# Altium footprint library Inductor_THT.PcbLib: 269 footprints (part 12 of 17)
Each footprint in its own frame and in the unit in brackets; x right, y up, seen from the top. Pads: shape width x height; smd on the part's side, far side on the other; paste and mask are expansions set on the pad; w line width, h text height; cw(c..) or ccw(c..) is an arc to the next point about the centre after c.
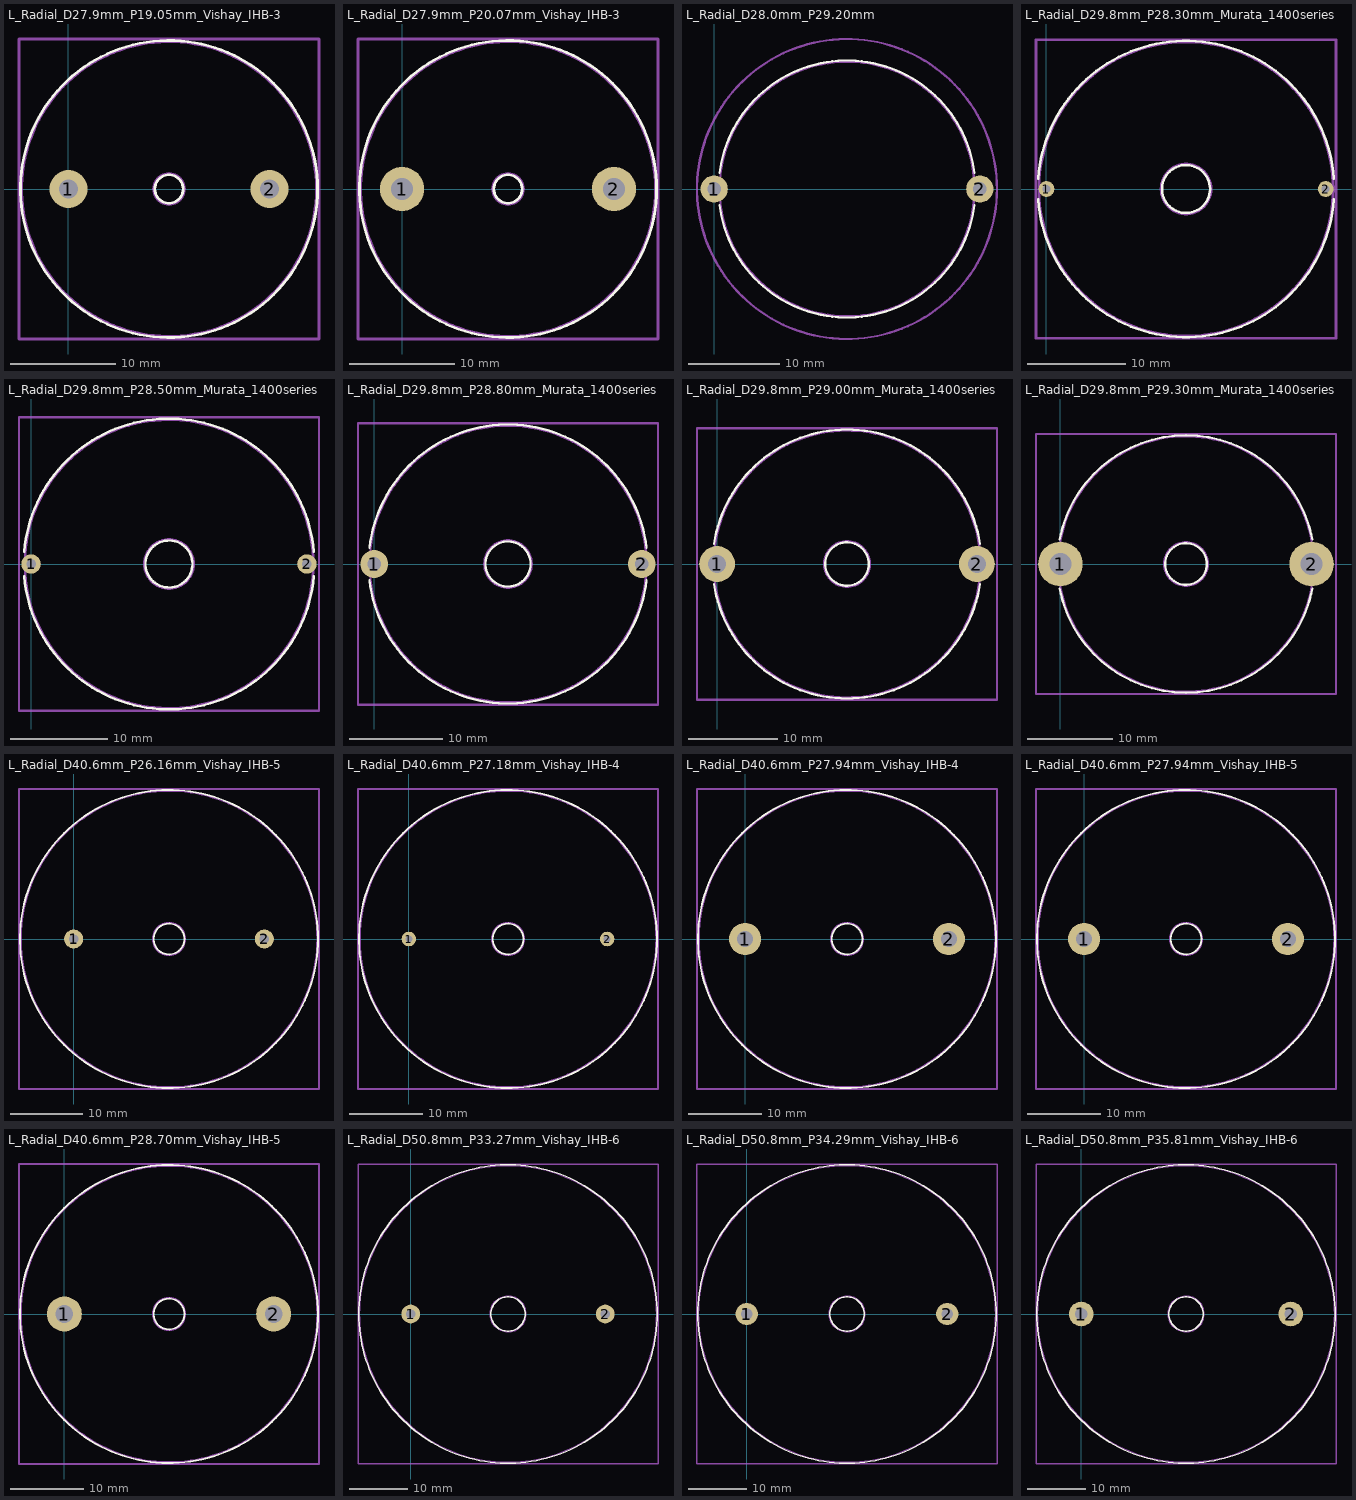
[diagram p11: the footprints below, top view; thin cyan lines are the x and y axes]

## L_Radial_D27.9mm_P19.05mm_Vishay_IHB-3 [mm]
pads (2):
  round 3.6 hole 1.8: 1(0,0) 2(19.05,0)
F.SilkS:
  circle w0.254: c9.525,0 r14.07
  circle w0.254: c9.525,0 r1.34
Top Assembly:
  circle w0.254: c9.525,0 r13.95
  circle w0.254: c9.525,0 r1.46
  text "'.Designator'" at 5.478,-0.84 h1
Top Courtyard:
  lines w0.254: -4.68,-14.2 23.73,-14.2 23.73,14.2 -4.68,14.2 -4.68,-14.2
Top Designator:
  text ".Designator" at 1.907,-0.508 h1.52
3D body "L_Radial_D27.9mm_P19.05mm_Vishay_IHB-3.step": height 21.44, standoff -3, extent -4.425,-13.946 23.475,13.946

## L_Radial_D27.9mm_P20.07mm_Vishay_IHB-3 [mm]
pads (2):
  round 4.2 hole 2.1: 1(0,0) 2(20.07,0)
F.SilkS:
  circle w0.254: c10.035,0 r14.07
  circle w0.254: c10.035,0 r1.34
Top Assembly:
  circle w0.254: c10.035,0 r13.95
  circle w0.254: c10.035,0 r1.46
  text "'.Designator'" at 5.988,-0.84 h1
Top Courtyard:
  lines w0.254: -4.17,-14.2 24.24,-14.2 24.24,14.2 -4.17,14.2 -4.17,-14.2
Top Designator:
  text ".Designator" at 2.417,-0.508 h1.52
3D body "L_Radial_D27.9mm_P20.07mm_Vishay_IHB-3.step": height 21.44, standoff -3, extent -3.915,-13.946 23.985,13.946

## L_Radial_D28.0mm_P29.20mm [mm]
pads (2):
  round 3 hole 1.5: 1(0,0) 2(29.2,0)
F.SilkS:
  lines w0.254: 0.59,-1.76 ccw(c14.6,0) 28.61,-1.76 ; 0.59,1.76 cw(c14.6,0) 28.61,1.76
Top Assembly:
  circle w0.254: c14.6,0 r14
  text "'.Designator'" at 10.553,-0.84 h1
Top Courtyard:
  circle w0.254: c14.6,0 r16.49
Top Designator:
  text ".Designator" at 6.982,-0.508 h1.52
3D body "L_Radial_D28.0mm_P29.20mm.step": height 28.1, standoff -3, extent -0.595,-14 29.8,14

## L_Radial_D29.8mm_P28.30mm_Murata_1400series [mm]
pads (2):
  round 1.6 hole 0.8: 1(0,0) 2(28.3,0)
F.SilkS:
  circle w0.254: c14.15,0 r2.43
  lines w0.254: -0.833,-1.06 ccw(c14.15,0) 29.133,-1.06 ; -0.833,1.06 cw(c14.15,0) 29.133,1.06
Top Assembly:
  circle w0.254: c14.15,0 r2.55
  circle w0.254: c14.15,0 r14.9
  text "'.Designator'" at 10.103,-0.84 h1
Top Courtyard:
  lines w0.254: -1.06,-15.15 -1.06,15.15 29.35,15.15 29.35,-15.15 -1.06,-15.15
Top Designator:
  text ".Designator" at 6.527,-0.508 h1.52
3D body "L_Radial_D29.8mm_P28.30mm_Murata_1400series.step": height 10.6, standoff -3, extent -0.75,-14.896 29.05,14.896

## L_Radial_D29.8mm_P28.50mm_Murata_1400series [mm]
pads (2):
  round 2 hole 1: 1(0,0) 2(28.5,0)
F.SilkS:
  circle w0.254: c14.25,0 r2.43
  lines w0.254: -0.717,-1.26 ccw(c14.25,0) 29.217,-1.26 ; -0.717,1.26 cw(c14.25,0) 29.217,1.26
Top Assembly:
  circle w0.254: c14.25,0 r14.9
  circle w0.254: c14.25,0 r2.55
  text "'.Designator'" at 10.203,-0.84 h1
Top Courtyard:
  lines w0.254: -1.25,-15.15 29.75,-15.15 29.75,15.15 -1.25,15.15 -1.25,-15.15
Top Designator:
  text ".Designator" at 6.632,-0.508 h1.52
3D body "L_Radial_D29.8mm_P28.50mm_Murata_1400series.step": height 10.6, standoff -3, extent -0.65,-14.896 29.15,14.896

## L_Radial_D29.8mm_P28.80mm_Murata_1400series [mm]
pads (2):
  round 3 hole 1.5: 1(0,0) 2(28.8,0)
F.SilkS:
  circle w0.254: c14.4,0 r2.43
  lines w0.254: -0.517,-1.76 ccw(c14.4,0) 29.317,-1.76 ; -0.517,1.76 cw(c14.4,0) 29.317,1.76
Top Assembly:
  circle w0.254: c14.4,0 r14.9
  circle w0.254: c14.4,0 r2.55
  text "'.Designator'" at 10.353,-0.84 h1
Top Courtyard:
  lines w0.254: -1.75,-15.15 30.55,-15.15 30.55,15.15 -1.75,15.15 -1.75,-15.15
Top Designator:
  text ".Designator" at 6.782,-0.508 h1.52
3D body "L_Radial_D29.8mm_P28.80mm_Murata_1400series.step": height 10.6, standoff -3, extent -0.6,-14.9 29.4,14.9

## L_Radial_D29.8mm_P29.00mm_Murata_1400series [mm]
pads (2):
  round 4 hole 2: 1(0,0) 2(29,0)
F.SilkS:
  circle w0.254: c14.5,0 r2.43
  lines w0.254: -0.349,-2.26 ccw(c14.5,0) 29.349,-2.26 ; -0.349,2.26 cw(c14.5,0) 29.349,2.26
Top Assembly:
  circle w0.254: c14.5,0 r14.9
  circle w0.254: c14.5,0 r2.55
  text "'.Designator'" at 10.453,-0.84 h1
Top Courtyard:
  lines w0.254: -2.25,-15.15 31.25,-15.15 31.25,15.15 -2.25,15.15 -2.25,-15.15
Top Designator:
  text ".Designator" at 6.882,-0.508 h1.52
3D body "L_Radial_D29.8mm_P29.00mm_Murata_1400series.step": height 10.6, standoff -3, extent -0.85,-14.9 29.85,14.9

## L_Radial_D29.8mm_P29.30mm_Murata_1400series [mm]
pads (2):
  round 5.2 hole 2.6: 1(0,0) 2(29.3,0)
F.SilkS:
  circle w0.254: c14.65,0 r2.43
  lines w0.254: -0.095,-2.86 ccw(c14.65,0) 29.395,-2.86 ; -0.095,2.86 cw(c14.65,0) 29.395,2.86
Top Assembly:
  circle w0.254: c14.65,0 r14.9
  circle w0.254: c14.65,0 r2.55
  text "'.Designator'" at 10.603,-0.84 h1
Top Courtyard:
  lines w0.254: -2.85,-15.15 32.15,-15.15 32.15,15.15 -2.85,15.15 -2.85,-15.15
Top Designator:
  text ".Designator" at 7.032,-0.508 h1.52
3D body "L_Radial_D29.8mm_P29.30mm_Murata_1400series.step": height 10.6, standoff -3, extent -1.141,-14.9 30.45,14.9

## L_Radial_D40.6mm_P26.16mm_Vishay_IHB-5 [mm]
pads (2):
  round 2.6 hole 1.3: 1(0,0) 2(26.16,0)
F.SilkS:
  circle w0.254: c13.08,0 r2.105
  circle w0.254: c13.08,0 r20.44
Top Assembly:
  circle w0.254: c13.08,0 r2.225
  circle w0.254: c13.08,0 r20.32
  text "'.Designator'" at 9.033,-0.84 h1
Top Courtyard:
  lines w0.254: -7.49,-20.57 -7.49,20.57 33.65,20.57 33.65,-20.57 -7.49,-20.57
Top Designator:
  text ".Designator" at 5.462,-0.508 h1.52
3D body "L_Radial_D40.6mm_P26.16mm_Vishay_IHB-5.step": height 36.93, standoff -3, extent -7.24,-20.314 33.4,20.314

## L_Radial_D40.6mm_P27.18mm_Vishay_IHB-4 [mm]
pads (2):
  round 2 hole 1: 1(0,0) 2(27.18,0)
F.SilkS:
  circle w0.254: c13.59,0 r2.105
  circle w0.254: c13.59,0 r20.44
Top Assembly:
  circle w0.254: c13.59,0 r2.225
  circle w0.254: c13.59,0 r20.32
  text "'.Designator'" at 9.543,-0.84 h1
Top Courtyard:
  lines w0.254: -6.98,-20.57 -6.98,20.57 34.16,20.57 34.16,-20.57 -6.98,-20.57
Top Designator:
  text ".Designator" at 5.972,-0.508 h1.52
3D body "L_Radial_D40.6mm_P27.18mm_Vishay_IHB-4.step": height 26.26, standoff -3, extent -6.73,-20.314 33.91,20.314

## L_Radial_D40.6mm_P27.94mm_Vishay_IHB-4 [mm]
pads (2):
  round 4.4 hole 2.2: 1(0,0) 2(27.94,0)
F.SilkS:
  circle w0.254: c13.97,0 r20.44
  circle w0.254: c13.97,0 r2.105
Top Assembly:
  circle w0.254: c13.97,0 r20.32
  circle w0.254: c13.97,0 r2.225
  text "'.Designator'" at 9.923,-0.84 h1
Top Courtyard:
  lines w0.254: -6.6,-20.57 34.54,-20.57 34.54,20.57 -6.6,20.57 -6.6,-20.57
Top Designator:
  text ".Designator" at 6.352,-0.508 h1.52
3D body "L_Radial_D40.6mm_P27.94mm_Vishay_IHB-4.step": height 26.26, standoff -3, extent -6.35,-20.314 34.29,20.314

## L_Radial_D40.6mm_P27.94mm_Vishay_IHB-5 [mm]
pads (2):
  round 4.4 hole 2.2: 1(0,0) 2(27.94,0)
F.SilkS:
  circle w0.254: c13.97,0 r20.44
  circle w0.254: c13.97,0 r2.105
Top Assembly:
  circle w0.254: c13.97,0 r20.32
  circle w0.254: c13.97,0 r2.225
  text "'.Designator'" at 9.923,-0.84 h1
Top Courtyard:
  lines w0.254: -6.6,-20.57 34.54,-20.57 34.54,20.57 -6.6,20.57 -6.6,-20.57
Top Designator:
  text ".Designator" at 6.352,-0.508 h1.52
3D body "L_Radial_D40.6mm_P27.18mm_Vishay_IHB-4.step": height 26.26, standoff -3, extent -6.73,-20.314 33.91,20.314

## L_Radial_D40.6mm_P28.70mm_Vishay_IHB-5 [mm]
pads (2):
  round 4.8 hole 2.4: 1(0,0) 2(28.7,0)
F.SilkS:
  circle w0.254: c14.35,0 r20.44
  circle w0.254: c14.35,0 r2.105
Top Assembly:
  circle w0.254: c14.35,0 r20.32
  circle w0.254: c14.35,0 r2.225
  text "'.Designator'" at 10.303,-0.84 h1
Top Courtyard:
  lines w0.254: -6.22,-20.57 34.92,-20.57 34.92,20.57 -6.22,20.57 -6.22,-20.57
Top Designator:
  text ".Designator" at 6.732,-0.508 h1.52
3D body "L_Radial_D40.6mm_P28.70mm_Vishay_IHB-5.step": height 36.93, standoff -3, extent -5.97,-20.314 34.67,20.314

## L_Radial_D50.8mm_P33.27mm_Vishay_IHB-6 [mm]
pads (2):
  round 3.2 hole 1.6: 1(0,0) 2(33.27,0)
F.SilkS:
  circle w0.254: c16.635,0 r25.52
  circle w0.254: c16.635,0 r2.93
Top Assembly:
  circle w0.254: c16.635,0 r25.4
  circle w0.254: c16.635,0 r3.05
  text "'.Designator'" at 12.588,-0.84 h1
Top Courtyard:
  lines w0.254: -9.02,-25.65 42.29,-25.65 42.29,25.65 -9.02,25.65 -9.02,-25.65
Top Designator:
  text ".Designator" at 9.017,-0.508 h1.52
3D body "L_Radial_D50.8mm_P33.27mm_Vishay_IHB-6.step": height 38.2, standoff -3, extent -8.765,-25.393 42.035,25.393

## L_Radial_D50.8mm_P34.29mm_Vishay_IHB-6 [mm]
pads (2):
  round 3.8 hole 1.9: 1(0,0) 2(34.29,0)
F.SilkS:
  circle w0.254: c17.145,0 r25.52
  circle w0.254: c17.145,0 r2.93
Top Assembly:
  circle w0.254: c17.145,0 r25.4
  circle w0.254: c17.145,0 r3.05
  text "'.Designator'" at 13.098,-0.84 h1
Top Courtyard:
  lines w0.254: -8.51,-25.65 42.8,-25.65 42.8,25.65 -8.51,25.65 -8.51,-25.65
Top Designator:
  text ".Designator" at 9.527,-0.508 h1.52
3D body "L_Radial_D50.8mm_P34.29mm_Vishay_IHB-6.step": height 38.2, standoff -3, extent -8.255,-25.393 42.545,25.393

## L_Radial_D50.8mm_P35.81mm_Vishay_IHB-6 [mm]
pads (2):
  round 4.2 hole 2.1: 1(0,0) 2(35.81,0)
F.SilkS:
  circle w0.254: c17.905,0 r25.52
  circle w0.254: c17.905,0 r2.93
Top Assembly:
  circle w0.254: c17.905,0 r25.4
  circle w0.254: c17.905,0 r3.05
  text "'.Designator'" at 13.858,-0.84 h1
Top Courtyard:
  lines w0.254: -7.75,-25.65 43.56,-25.65 43.56,25.65 -7.75,25.65 -7.75,-25.65
Top Designator:
  text ".Designator" at 10.287,-0.508 h1.52
3D body "L_Radial_D50.8mm_P35.81mm_Vishay_IHB-6.step": height 38.2, standoff -3, extent -7.495,-25.393 43.305,25.393